# EAGLE library part OVSTRGBBCR8 (library adam - ics)
Full Color PLCC6 LED OVSTRGBBCR8 Source: www.optekinc.com .. ovstrgbbcr8.pdf
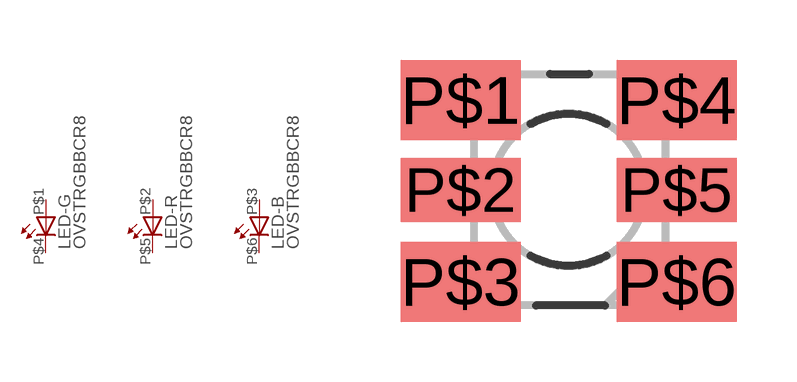
[diagram p1: symbol with the pads of PLCC-6; footprint PLCC-6]

Designator prefix LED; gates -G=LED-PAD-2K -R=LED-PAD-2K -B=LED-PAD-2K

## OVSTRGBBCR8  [PLCC-6]
P$1  -G:A  pas
P$2  -R:A  pas
P$3  -B:A  pas
P$4  -G:C  pas
P$5  -R:C  pas
P$6  -B:C  pas

## Footprint PLCC-6 (pad centres in mm)
smd 3 x 2: P$1 -2.7,2.15; P$3 -2.7,-2.4; P$4 2.7,2.15; P$6 2.7,-2.4
smd 3 x 1.6: P$2 -2.7,-0.1; P$5 2.7,-0.1